# Altium schematic symbol library HP48GX_01.SCHLIB: 12 symbols
Pins are listed as number, name and electrical type; pins without a type are passive.

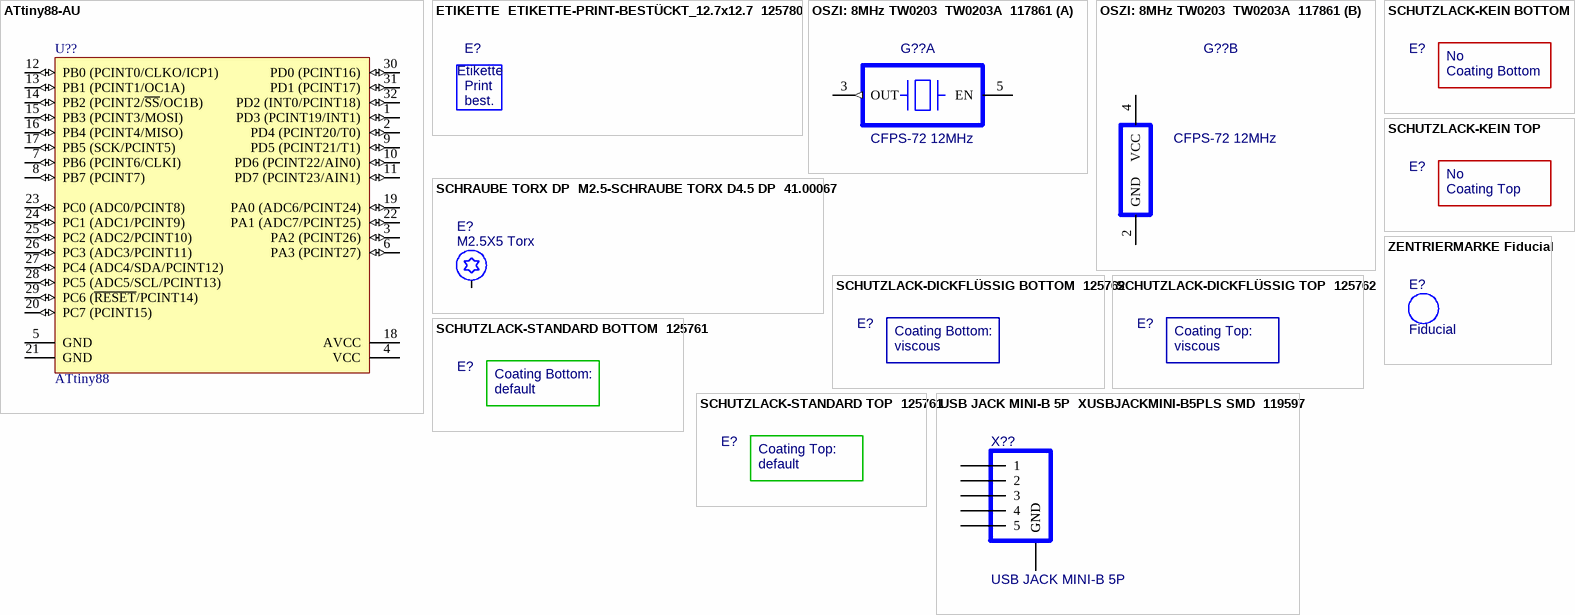
[diagram p0: symbols ATtiny88-AU to ZENTRIERMARKE Fiducial]

## ATtiny88-AU
designator U??, comment ATtiny88
8-bit AVR Microcontroller, 1.8-5.5V, 8KB Flash, 64 Bytes EEPROM, 512 Bytes SRAM, 32-pin TQFP, Industrial Grade (-40°C to 85°C), Pb-Free; Published: 1-Apr-2010; DatasheetVersion: revC, Mar-2009; PackageVersion: revB, Oct-2001; PackageReference: 32A; Publisher: Altium Limited; PackageDescription: 32-Lead, 7x7x1.0 mm Body, 0.8mm Lead Pitch, Thin Profile Plastic Quad Flat Package (TQFP); Supplier 1: Digi-Key; Supplier Part Number 1: ATTINY88-AU-ND; Supplier 2: Farnell; Supplier Part Number 2: 1704570; Supplier 3: Mouser; Supplier Part Number 3: 556-ATTINY88-AU; Code_JEDEC: MS-026-ABA; ComponentLink1Description: Manufacturer Link; ComponentLink1URL: http://www.atmel.com/products/avr/default.asp?; ComponentLink2Description: ATtiny48/88 Datasheet; ComponentLink2URL: http://www.atmel.com/dyn/resources/prod_documents/doc8008.pdf; ComponentLink3Description: ATtiny48/88 Summary; ComponentLink3URL: http://www.atmel.com/dyn/resources/prod_documents/8008S.pdf; ComponentLink4Description: Atmel.com Home; ComponentLink4URL: http://www.atmel.com
footprint 32A_N (Thin QFP, 32-Leads, Body 7x7mm, Pitch 0.8mm, IPC Medium Density)
footprint 32A_L (Thin QFP, 32-Leads, Body 7x7mm, Pitch 0.8mm, IPC High Density)
footprint 32A_M (Thin QFP, 32-Leads, Body 7x7mm, Pitch 0.8mm, IPC Low Density)
pins: 1 PD3 (PCINT19/INT1) (io), 2 PD4 (PCINT20/T0) (io), 3 PA2 (PCINT26) (io), 4 VCC (power), 5 GND (power), 6 PA3 (PCINT27) (io), 7 PB6 (PCINT6/CLKI) (io), 8 PB7 (PCINT7) (io), 9 PD5 (PCINT21/T1) (io), 10 PD6 (PCINT22/AIN0) (io), 11 PD7 (PCINT23/AIN1) (io), 12 PB0 (PCINT0/CLKO/ICP1) (io), 13 PB1 (PCINT1/OC1A) (io), 14 PB2 (PCINT2/~{SS}/OC1B) (io), 15 PB3 (PCINT3/MOSI) (io), 16 PB4 (PCINT4/MISO) (io), 17 PB5 (SCK/PCINT5) (io), 18 AVCC (power), 19 PA0 (ADC6/PCINT24) (io), 20 PC7 (PCINT15) (io), 21 GND (power), 22 PA1 (ADC7/PCINT25) (io), 23 PC0 (ADC0/PCINT8) (io), 24 PC1 (ADC1/PCINT9) (io), 25 PC2 (ADC2/PCINT10) (io), 26 PC3 (ADC3/PCINT11) (io), 27 PC4 (ADC4/SDA/PCINT12) (io), 28 PC5 (ADC5/SCL/PCINT13) (io), 29 PC6 (~{RESET}/PCINT14) (io), 30 PD0 (PCINT16) (io), 31 PD1 (PCINT17) (io), 32 PD2 (INT0/PCINT18) (io)

## ETIKETTE  ETIKETTE-PRINT-BESTÜCKT_12.7x12.7  125780
designator E?  (value not drawn)
Zubehör/Etiketten-Printkleber; Artikelnummer IN-ERP: 125780
footprint ETIKETTE-PRINT-BESTÜCKT_12.7x12.7
footprint ETIKETTE-PRINT-BESTÜCKT_12.7x12.7_2/3
text: Etikette; Print; best.

## OSZI: 8MHz TW0203  TW0203A  117861
designator G??, comment CFPS-72 12MHz
RF/OSZI; Artikelnummer IN-ERP: 117861; Material Gruppe: 09; Bezeichnung 1: TW0203A, SMD 3.2x5mm; Bezeichnung 2: Crystal-Oscill. 8MHz, ±30ppm@-20...+70°C, 3.3V; Lagerbestand: 45; Status Artikel: Normal; Footprint: TW0203A; Datum Library Update: 07.04.2016; ComponentLink1Description: Datenblatt; ComponentLink1URL: g:\Entwicklung\DATENBLAETTER\Artikelnummer COMLAB\117861\; Rev: 1; Value: CFPS-72 12MHz
footprint TW0203A (Footprint not found)
part A pins: 3 OUT (out), 5 EN
part B pins: 2 GND (power), 4 VCC (power)

## SCHRAUBE TORX DP  M2.5-SCHRAUBE TORX D4.5 DP  41.00067
designator E?, comment M2.5X5 Torx
MX-SCHRAUBE TORX DurchmesserX Nicht/DurchPlattiert; Artikelnummer Damgaard: 41.00067; Artikelnummer IN-ERP: 107004; Material Gruppe: 41; Lagerbestand: 0; Status Artikel: Normal; Bezeichnung 1: M2.5x5 Schraube, FN1952; Bezeichnung 2: ZK Torx; Lieferant: SFS; Lieferant Best.Nr: 293007; Footprint: M2.5-SCHRAUBE TORX D4.5 DP; Datum Library Update: 16.11.2009; Grundpreis: 0; Value: M2.5X5 Torx; ComponentLink2Description: Lieferant Homepage; ComponentLink2URL: www.sfsunimarket.biz
footprint M2.5-SCHRAUBE TORX D4.5 DP
pins: 1

## SCHUTZLACK-DICKFLÜSSIG BOTTOM  125762
designator E?  (value not drawn)
Zubehör/Schutzlack; Artikelnummer IN-ERP: 125762; Material Gruppe: 44; Rev: 1
footprint SCHUTZLACK-DICKFLÜSSIG: BOTTOM
text: Coating Bottom:; viscous

## SCHUTZLACK-DICKFLÜSSIG TOP  125762
designator E?  (value not drawn)
Zubehör/Schutzlack; Artikelnummer IN-ERP: 125762; Material Gruppe: 44; Rev: 1
footprint SCHUTZLACK-DICKFLÜSSIG: TOP
text: Coating Top:; viscous

## SCHUTZLACK-KEIN BOTTOM
designator E?  (value not drawn)  (no BOM)
Zubehör/Schutzlack; Rev: 1
footprint SCHUTZLACK-KEIN BOTTOM
text: No; Coating Bottom

## SCHUTZLACK-KEIN TOP
designator E?  (value not drawn)  (no BOM)
Zubehör/Schutzlack; Rev: 1
footprint SCHUTZLACK-KEIN TOP
text: No; Coating Top

## SCHUTZLACK-STANDARD BOTTOM  125761
designator E?  (value not drawn)
Zubehör/Schutzlack; Artikelnummer IN-ERP: 125761; Material Gruppe: 44; Rev: 1
footprint SCHUTZLACK-STANDARD: BOTTOM
text: Coating Bottom:; default

## SCHUTZLACK-STANDARD TOP  125761
designator E?  (value not drawn)
Zubehör/Schutzlack; Artikelnummer IN-ERP: 125761; Material Gruppe: 44; Rev: 1
footprint SCHUTZLACK-STANDARD: TOP
text: Coating Top:; default

## USB JACK MINI-B 5P  XUSBJACKMINI-B5PLS SMD  119597
designator X??, comment USB JACK MINI-B 5P
Stecker/USB Jackf Mini-B SMD liegend; Artikelnummer IN-ERP: 119597; Material Gruppe: 15; Bezeichnung 1: USB Mini-B 5Pf; Bezeichnung 2: Print, liegend, SMD mit Pos.Bolzen; Grundpreis: 0.2705; Lagerbestand: 386; Status Artikel: Normal; Lieferant: Avnet EMG AG; Lieferant Best.Nr: MLX675031020; Herst. 1: Molex; Herst. 1 ArtNr.: 67503- 1020; Footprint: XUSBJACKMINI-B5PLS SMD; ComponentLink1Description: Datenblatt; ComponentLink1URL: G:\Entwicklung\DATENBLAETTER\Artikelnummer COMLAB\119597; Datum Library Update: 07.04.2016; Rev: 1; Value: USB JACK MINI-B 5P
footprint XUSBJACKMINI-B5PLS SMD
pins: 1, 2, 3, 4, 5, a GND (power), b GND (power), c GND (power), d GND (power)

## ZENTRIERMARKE Fiducial
designator E?, comment Fiducial
Zubehör/Zentriermarke, 2...8x diagonal auf jedem Print; Artikelnummer IN-ERP: Zentriermarke Fiducial; Rev: 1; Value: Fiducial
footprint ZENTRIER Fiducial